# Altium footprint library acf_foot.PcbLib: 36 footprints (part 1 of 3)
Each footprint in its own frame and in the unit in brackets; x right, y up, seen from the top. Pads: shape width x height; smd on the part's side, far side on the other; paste and mask are expansions set on the pad; w line width, h text height; cw(c..) or ccw(c..) is an arc to the next point about the centre after c.
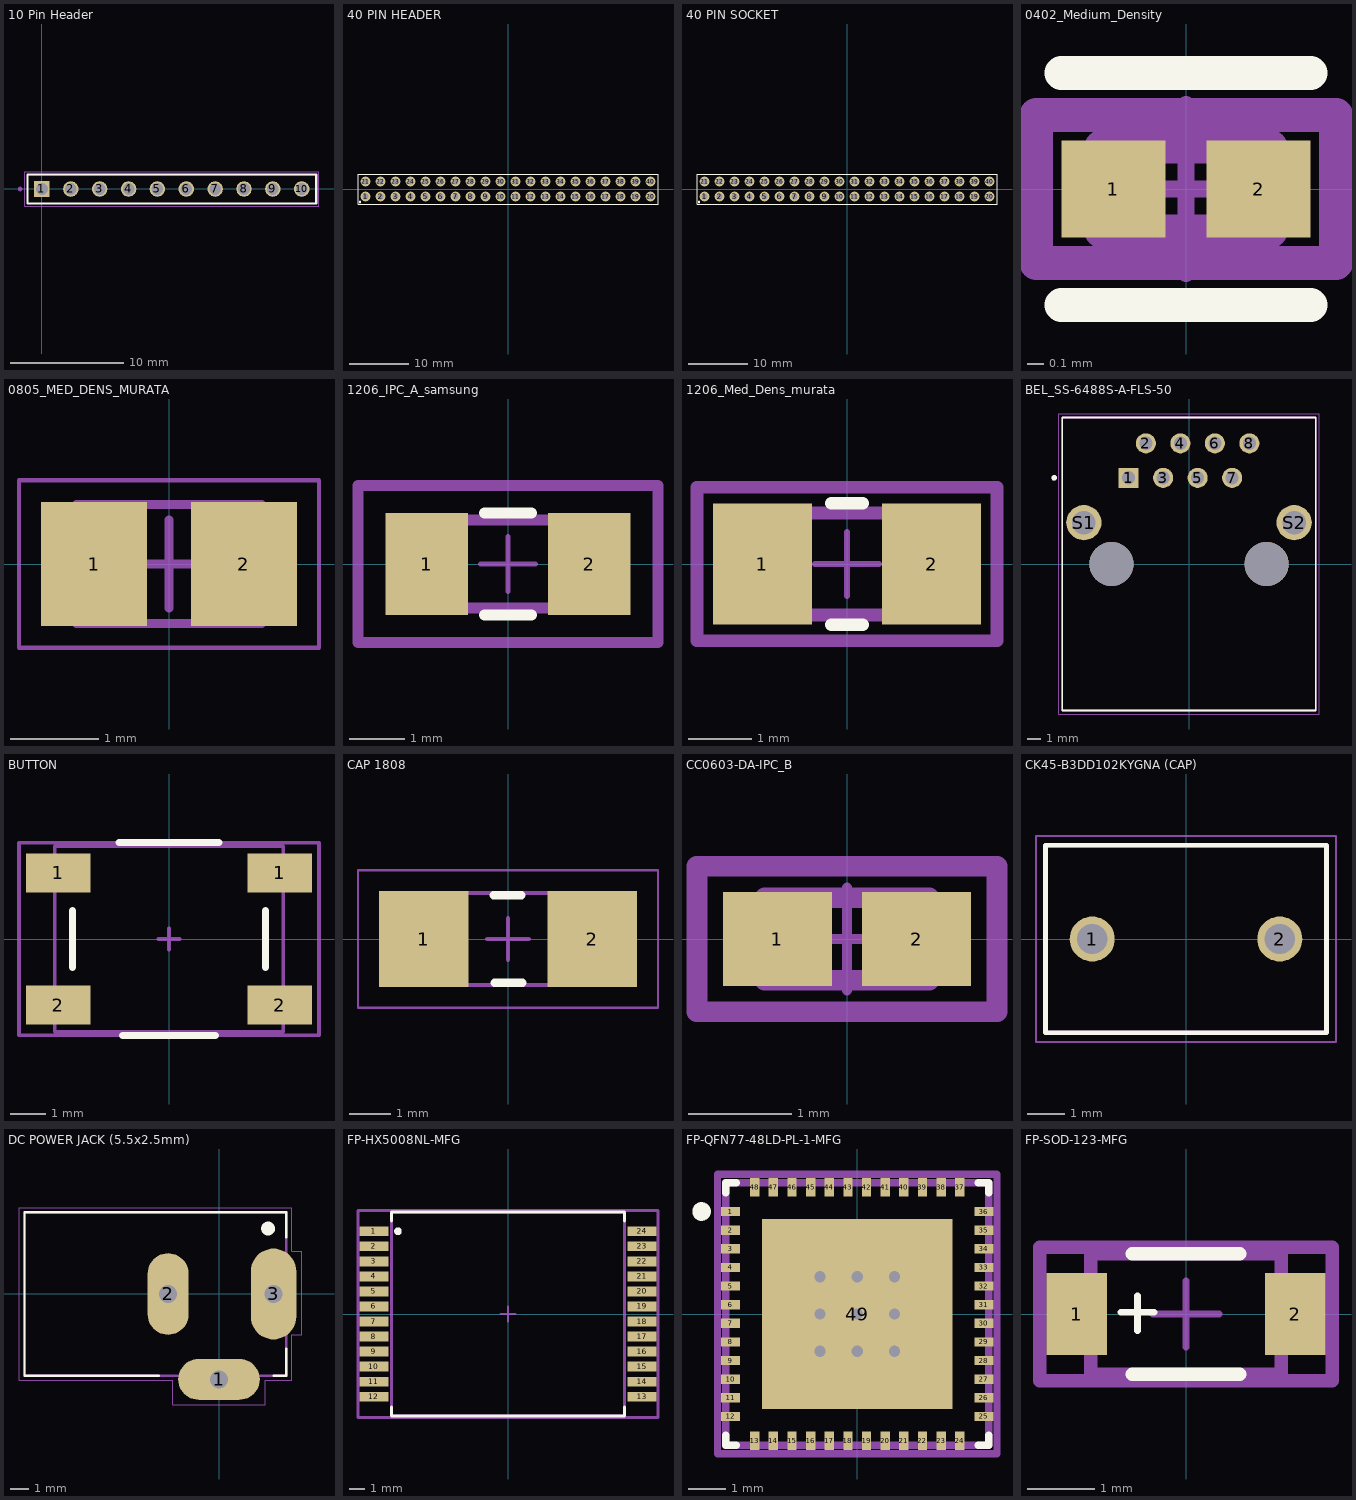
[diagram p0: the footprints below, top view; thin cyan lines are the x and y axes]

## 10 Pin Header [mm]
pads (10):
  rect 1.37x1.37 hole 1.02: 1(0,0)
  round 1.37 hole 1.02: 2(2.54,0) 3(5.08,0) 4(7.62,0) 5(10.16,0) 6(12.7,0) 7(15.24,0) 8(17.78,0) 9(20.32,0) 10(22.86,0)
Top Overlay:
  lines w0.2: -1.27,-1.27 24.13,-1.27 24.13,1.27 -1.27,1.27 -1.27,-1.27
Top 3D Body:
  circle w0.2: c-1.92,0 r0.1
  lines w0.1: -1.27,-1.27 24.13,-1.27 24.13,1.27 -1.27,1.27 -1.27,-1.27
Top Courtyard:
  lines w0.05: -1.52,-1.52 24.38,-1.52 24.38,1.52 -1.52,1.52 -1.52,-1.52
3D body "TSW-110-05-G-S.stp": height 5.21, standoff -3.3, extent -1.352,-1.27 24.175,1.27

## 40 PIN HEADER [mm] "40 PIN HEADER"
pads (40):
  round 1.65 hole 1.1: 1(-24.13,-1.27) 2(-21.59,-1.27) 3(-19.05,-1.27) 4(-16.51,-1.27) 5(-13.97,-1.27) 6(-11.43,-1.27) 7(-8.89,-1.27) 8(-6.35,-1.27) 9(-3.81,-1.27) 10(-1.27,-1.27) 11(1.27,-1.27) 12(3.81,-1.27) 13(6.35,-1.27) 14(8.89,-1.27) 15(11.43,-1.27) 16(13.97,-1.27) 17(16.51,-1.27) 18(19.05,-1.27) 19(21.59,-1.27) 20(24.13,-1.27) 21(-24.13,1.27) 22(-21.59,1.27) 23(-19.05,1.27) 24(-16.51,1.27) 25(-13.97,1.27) 26(-11.43,1.27) 27(-8.89,1.27) 28(-6.35,1.27) 29(-3.81,1.27) 30(-1.27,1.27) 31(1.27,1.27) 32(3.81,1.27) 33(6.35,1.27) 34(8.89,1.27) 35(11.43,1.27) 36(13.97,1.27) 37(16.51,1.27) 38(19.05,1.27) 39(21.59,1.27) 40(24.13,1.27)
Top Overlay:
  circle w0.127: c-25.06,-2.2 r0.1
  lines w0.127: -25.4,-2.54 -25.4,2.54 25.4,2.54 25.4,-2.54 -25.4,-2.54
3D body "61304021121.stp": height 8.47, standoff -3.07, extent -25.375,-2.515 25.425,2.565

## 40 PIN SOCKET [mm] "40 PIN HEADER"
pads (40):
  round 1.65 hole 1.1: 1(-24.13,-1.27) 2(-21.59,-1.27) 3(-19.05,-1.27) 4(-16.51,-1.27) 5(-13.97,-1.27) 6(-11.43,-1.27) 7(-8.89,-1.27) 8(-6.35,-1.27) 9(-3.81,-1.27) 10(-1.27,-1.27) 11(1.27,-1.27) 12(3.81,-1.27) 13(6.35,-1.27) 14(8.89,-1.27) 15(11.43,-1.27) 16(13.97,-1.27) 17(16.51,-1.27) 18(19.05,-1.27) 19(21.59,-1.27) 20(24.13,-1.27) 21(-24.13,1.27) 22(-21.59,1.27) 23(-19.05,1.27) 24(-16.51,1.27) 25(-13.97,1.27) 26(-11.43,1.27) 27(-8.89,1.27) 28(-6.35,1.27) 29(-3.81,1.27) 30(-1.27,1.27) 31(1.27,1.27) 32(3.81,1.27) 33(6.35,1.27) 34(8.89,1.27) 35(11.43,1.27) 36(13.97,1.27) 37(16.51,1.27) 38(19.05,1.27) 39(21.59,1.27) 40(24.13,1.27)
Top Overlay:
  circle w0.127: c-25.06,-2.2 r0.1
  lines w0.127: -25.4,-2.54 -25.4,2.54 25.4,2.54 25.4,-2.54 -25.4,-2.54
3D body "ESQ-120-13-S-D.stp": height 11.51, standoff -6.91, extent -25.629,-2.55 25.679,2.53

## 0402_Medium_Density [mm]
pads (2):
  rect 0.615x0.572 smd paste+0 mask+0: 1(-0.429,0) 2(0.429,0)
Top Overlay:
  lines w0.2: -0.736,-0.686 0.736,-0.686 ; -0.736,0.686 0.736,0.686
Top Assembly:
  lines w0.2: -0.886,-0.436 0.886,-0.436 0.886,0.436 -0.886,0.436 -0.886,-0.436
Top 3D Body:
  lines w0.2: -0.5,-0.25 0.5,-0.25 0.5,0.25 -0.5,0.25 -0.5,-0.25
Top Courtyard:
  lines w0.2: -0.886,-0.436 0.886,-0.436 0.886,0.436 -0.886,0.436 -0.886,-0.436
Top Component Center:
  lines w0.1: -0.5,0 0.5,0 ; 0,-0.5 0,0.5
3D body "Cap_Murata_Electronics_North_America_GRM155R61A474KE15D_eec.STEP": height 0.25, standoff 0, extent -0.886,-0.436 0.886,0.436

## 0805_MED_DENS_MURATA [mm] "Chip Capacitor, 2-Leads, Body 2.00x1.25mm, IPC Medium Density"
height 1.35
pads (2):
  rect 1.2x1.4 smd: 1(-0.85,0) 2(0.85,0)
Top 3D Body:
  lines w0.1: -1.05,-0.675 -1.05,0.675 1.05,0.675 1.05,-0.675 -1.05,-0.675
Top Courtyard:
  lines w0.05: -1.7,-0.95 -1.7,0.95 1.7,0.95 1.7,-0.95 -1.7,-0.95
  lines w0.1: -0.5,0 0.5,0 ; 0,-0.5 0,0.5
3D body: height 1.35, standoff 0, extent -0.6,-0.675 0.6,0.675
3D body: height 1.35, standoff 0, extent -1.05,-0.675 -0.6,0.675
3D body: height 1.35, standoff 0, extent 0.6,-0.675 1.05,0.675

## 1206_IPC_A_samsung [mm]
pads (2):
  rect 1.505x1.858 smd paste+0 mask+0: 1(-1.476,0) 2(1.476,0)
Top Overlay:
  lines w0.2: -0.424,-0.929 0.424,-0.929 ; -0.424,0.929 0.424,0.929
Top Assembly:
  lines w0.2: -2.729,-1.429 -2.729,1.429 2.729,1.429 2.729,-1.429 -2.729,-1.429
Top 3D Body:
  lines w0.2: -1.6,-0.8 -1.6,0.8 1.6,0.8 1.6,-0.8 -1.6,-0.8
Top Courtyard:
  lines w0.2: -2.729,-1.429 -2.729,1.429 2.729,1.429 2.729,-1.429 -2.729,-1.429
Top Component Center:
  lines w0.1: -0.5,0 0.5,0 ; 0,-0.5 0,0.5
3D body "Cap_Samsung_CL31B105KOFNNNE_eec.STEP": height 0.25, standoff 0, extent -2.729,-1.429 2.729,1.429

## 1206_Med_Dens_murata [mm]
pads (2):
  rect 1.553x1.904 smd paste+0 mask+0: 1(-1.325,0) 2(1.325,0)
Top Overlay:
  lines w0.2: -0.249,-0.952 0.249,-0.952 ; -0.249,0.952 0.249,0.952
Top Assembly:
  lines w0.2: -2.352,-1.202 -2.352,1.202 2.352,1.202 2.352,-1.202 -2.352,-1.202
  text ".Designator" at 0,0.188 h1
Top 3D Body:
  lines w0.2: -1.6,-0.8 -1.6,0.8 1.6,0.8 1.6,-0.8 -1.6,-0.8
Top Courtyard:
  lines w0.2: -2.352,-1.202 -2.352,1.202 2.352,1.202 2.352,-1.202 -2.352,-1.202
Top Component Center:
  lines w0.1: -0.5,0 0.5,0 ; 0,-0.5 0,0.5
3D body "Cap_Murata_GRM31CC72A475KE11L_eec.STEP": height 0.25, standoff 0, extent -2.352,-1.202 2.352,1.202

## BEL_SS-6488S-A-FLS-50 [mm]
pads (12):
  rect 1.478x1.478 hole 0.97: 1(-4.445,6.35)
  round 1.478 hole 0.97: 2(-3.175,8.89) 3(-1.905,6.35) 4(-0.635,8.89) 5(0.635,6.35) 6(1.905,8.89) 7(3.175,6.35) 8(4.445,8.89)
  round 2.595 hole 1.73: S1(-7.745,3.05) S2(7.745,3.05)
  round 3.25 hole 3.25 unplated: ""(-5.715,0) ""(5.715,0)
Top Overlay:
  circle w0.2: c-9.931,6.35 r0.1
  lines w0.127: -9.335,-10.79 9.335,-10.79 9.335,10.8 -9.335,10.8 -9.335,-10.79
Top 3D Body:
  circle w0.2: c-9.931,6.35 r0.1
  lines w0.127: -9.335,-10.79 9.335,-10.79 9.335,10.8 -9.335,10.8 -9.335,-10.79
Top Courtyard:
  lines w0.05: -9.585,-11.04 9.585,-11.04 9.585,11.05 -9.585,11.05 -9.585,-11.04

## BUTTON [mm]
pads (4):
  rect 1.8x1.1 smd: 1(-3.1,1.85) 1(3.1,1.85) 2(-3.1,-1.85) 2(3.1,-1.85)
Top Overlay:
  lines w0.2: -2.7,-0.8 -2.7,0.8 ; -1.4,2.7 1.4,2.7 ; -1.3,-2.7 1.3,-2.7 ; 2.7,-0.8 2.7,0.8
Mechanical 1:
  lines w0.1: -3.2,-2.6 3.2,-2.6 3.2,2.6 -3.2,2.6 -3.2,-2.6
Top Courtyard:
  lines w0.1: -0.3,0 0.3,0 ; 0,-0.3 0,0.3 ; -4.2,-2.7 4.2,-2.7 4.2,2.7 -4.2,2.7 -4.2,-2.7
3D body "User Library-4x4_SMD_Switch.STEP": height 1.45, standoff -0.05, extent -3.2,-2.6 3.2,2.6

## CAP 1808 [mm] "Chip Capacitor, 2-Leads, Body 5.1x2.2mm, IPC Low Density"
height 1.803
pads (2):
  rect 2.15x2.3 smd: 1(-2.025,0) 2(2.025,0)
Top Overlay:
  lines w0.2: -0.35,1.05 0.325,1.05 ; -0.325,-1.05 0.35,-1.05
Top 3D Body:
  lines w0.1: -2.55,-1.1 2.55,-1.1 2.55,1.1 -2.55,1.1 -2.55,-1.1
Top Courtyard:
  lines w0.05: -3.6,-1.65 3.6,-1.65 3.6,1.65 -3.6,1.65 -3.6,-1.65
  lines w0.1: -0.5,0 0.5,0 ; 0,-0.5 0,0.5
3D body "CAPC4620X18M.step": height 1.8, standoff 0, extent -2.55,-1.1 2.55,1.1

## CC0603-DA-IPC_B [mm] "0603 CAP"
pads (2):
  rect 1.058x0.912 smd paste+0 mask+0: 1(-0.677,0) 2(0.677,0)
Top Assembly:
  lines w0.2: -1.456,-0.706 1.456,-0.706 1.456,0.706 -1.456,0.706 -1.456,-0.706
Top 3D Body:
  lines w0.2: -0.8,-0.4 0.8,-0.4 0.8,0.4 -0.8,0.4 -0.8,-0.4
Top Courtyard:
  lines w0.2: -1.456,-0.706 1.456,-0.706 1.456,0.706 -1.456,0.706 -1.456,-0.706
Top Component Center:
  lines w0.1: -0.5,0 0.5,0 ; 0,-0.5 0,0.5
3D body "Cap_YAGEO_CC0603KRX7R9BB271_eec.STEP": height 0.25, standoff 0, extent -1.456,-0.706 1.456,0.706

## CK45-B3DD102KYGNA (CAP) [mm]
pads (2):
  round 1.2 hole 0.8: 1(-2.5,0) 2(2.5,0)
Top Overlay:
  lines w0.127: -3.75,-2.5 3.75,-2.5 3.75,2.5 -3.75,2.5 -3.75,-2.5
Top 3D Body:
  lines w0.127: -3.75,-2.5 -3.75,2.5 3.75,2.5 3.75,-2.5 -3.75,-2.5
Top Courtyard:
  lines w0.05: -4,-2.75 -4,2.75 4,2.75 4,-2.75 -4,-2.75
3D body "step_temp.STEP": height 11.5, standoff -21, extent -3.75,-2.497 3.75,2.497

## DC POWER JACK (5.5x2.5mm) [mm] "DC POWER JACK (5.5x2.5mm)"
pads (3):
  oval 4.5x2.25 hole 1 square: 1(0,-4.7)
  oval 2.25x4.5 hole 1 square: 2(-2.8,0)
  oval 2.5x5 hole 1 square: 3(3,0)
Top Overlay:
  circle w0.4: c2.7,3.6 r0.18
  lines w0.127: -3.3,-4.5 -10.7,-4.5 -10.7,4.5 3.7,4.5 3.7,3.125 ; 3,-4.5 3.7,-4.5 3.7,-3
Top 3D Body:
  lines w0.127: -10.7,-4.5 3.7,-4.5 3.7,4.5 -10.7,4.5 -10.7,-4.5
Top Courtyard:
  lines w0.05: -11,-4.75 -2.55,-4.75 -2.55,-6.1 2.55,-6.1 2.55,-4.75 4,-4.75 4,-2.25 4.55,-2.25 4.55,2.35 4,2.35 4,4.75 -11,4.75 -11,-4.75
3D body "694106301002.stp": height 11.35, standoff -3.15, extent -10.625,-4.975 3.875,4.525

## FP-HX5008NL-MFG [mm]
pads (24):
  rect 1.905x0.64 smd paste+0 mask+0: 1(-8.828,5.445) 2(-8.828,4.455) 3(-8.828,3.465) 4(-8.828,2.475) 5(-8.828,1.485) 6(-8.828,0.495) 7(-8.828,-0.495) 8(-8.828,-1.485) 9(-8.828,-2.475) 10(-8.828,-3.465) 11(-8.828,-4.455) 12(-8.828,-5.445) 13(8.828,-5.445) 14(8.828,-4.455) 15(8.828,-3.465) 16(8.828,-2.475) 17(8.828,-1.485) 18(8.828,-0.495) 19(8.828,0.495) 20(8.828,1.485) 21(8.828,2.475) 22(8.828,3.465) 23(8.828,4.455) 24(8.828,5.445)
Top Overlay:
  circle w0.25: c-7.25,5.45 r0.125
  lines w0.2: -7.68,-6.14 -7.68,-6.705 7.68,-6.705 7.68,-6.14 ; -7.68,6.14 -7.68,6.705 7.68,6.705 7.68,6.14
Top Assembly:
  lines w0.2: -9.88,-6.805 9.88,-6.805 9.88,6.805 -9.88,6.805 -9.88,-6.805
Top 3D Body:
  lines w0.2: -7.68,-6.705 7.68,-6.705 7.68,6.705 -7.68,6.705 -7.68,-6.705
Top Courtyard:
  lines w0.2: -9.88,-6.805 9.88,-6.805 9.88,6.805 -9.88,6.805 -9.88,-6.805
Top Component Center:
  lines w0.1: -0.5,0 0.5,0 ; 0,-0.5 0,0.5
3D body "Trans_Pulse_Electronics_Corporation_HX5008NL_eec.STEP": height 0.25, standoff 0, extent -9.88,-6.805 9.88,6.805

## FP-QFN77-48LD-PL-1-MFG [mm]
pads (49):
  rect 0.5x0.25 smd paste+0 mask+0: 1(-3.4,2.75) 2(-3.4,2.25) 3(-3.4,1.75) 4(-3.4,1.25) 5(-3.4,0.75) 6(-3.4,0.25) 7(-3.4,-0.25) 8(-3.4,-0.75) 9(-3.4,-1.25) 10(-3.4,-1.75) 11(-3.4,-2.25) 12(-3.4,-2.75) 25(3.4,-2.75) 26(3.4,-2.25) 27(3.4,-1.75) 28(3.4,-1.25) 29(3.4,-0.75) 30(3.4,-0.25) 31(3.4,0.25) 32(3.4,0.75) 33(3.4,1.25) 34(3.4,1.75) 35(3.4,2.25) 36(3.4,2.75)
  rect 0.25x0.5 smd paste+0 mask+0: 13(-2.75,-3.4) 14(-2.25,-3.4) 15(-1.75,-3.4) 16(-1.25,-3.4) 17(-0.75,-3.4) 18(-0.25,-3.4) 19(0.25,-3.4) 20(0.75,-3.4) 21(1.25,-3.4) 22(1.75,-3.4) 23(2.25,-3.4) 24(2.75,-3.4) 37(2.75,3.4) 38(2.25,3.4) 39(1.75,3.4) 40(1.25,3.4) 41(0.75,3.4) 42(0.25,3.4) 43(-0.25,3.4) 44(-0.75,3.4) 45(-1.25,3.4) 46(-1.75,3.4) 47(-2.25,3.4) 48(-2.75,3.4)
  rect 5.1x5.1 smd paste-1000 mask+0: 49(0,0)
via 1,-1 diameter 0.6 hole 0.3
via 0,-1 diameter 0.6 hole 0.3
via -1,-1 diameter 0.6 hole 0.3
via 1,0 diameter 0.6 hole 0.3
via 0,0 diameter 0.6 hole 0.3
via -1,0 diameter 0.6 hole 0.3
via 1,1 diameter 0.6 hole 0.3
via 0,1 diameter 0.6 hole 0.3
via -1,1 diameter 0.6 hole 0.3
Top Overlay:
  circle w0.25: c-4.175,2.75 r0.125
  lines w0.2: -3.525,-3.25 -3.525,-3.525 -3.25,-3.525 ; -3.525,3.25 -3.525,3.525 -3.25,3.525 ; 3.25,-3.525 3.525,-3.525 3.525,-3.25 ; 3.25,3.525 3.525,3.525 3.525,3.25
Top Paste:
  rectangle: 0.75,-1.75 1.75,-0.75
  rectangle: -0.5,-1.75 0.5,-0.75
  rectangle: -1.75,-1.75 -0.75,-0.75
  rectangle: 0.75,-0.5 1.75,0.5
  rectangle: -0.5,-0.5 0.5,0.5
  rectangle: -1.75,-0.5 -0.75,0.5
  rectangle: 0.75,0.75 1.75,1.75
  rectangle: -0.5,0.75 0.5,1.75
  rectangle: -1.75,0.75 -0.75,1.75
Top Assembly:
  lines w0.2: -3.75,-3.75 -3.75,3.75 3.75,3.75 3.75,-3.75 -3.75,-3.75
  text ".Designator" at 0,0.188 h1
Top 3D Body:
  lines w0.2: -3.525,-3.525 -3.525,3.525 3.525,3.525 3.525,-3.525 -3.525,-3.525
Top Courtyard:
  lines w0.2: -3.75,-3.75 -3.75,3.75 3.75,3.75 3.75,-3.75 -3.75,-3.75
Top Component Center:
  lines w0.1: -0.5,0 0.5,0 ; 0,-0.5 0,0.5
3D body "IC_Microchip_KSZ9031RNXIC-TR_eec.STEP": height 0.91, standoff 0, extent -3.501,-3.501 3.501,3.501

## FP-SOD-123-MFG [mm]
pads (2):
  rect 0.91x1.22 smd paste+0 mask+0: 1(-1.635,0) 2(1.635,0)
Top Overlay:
  lines w0.1: -0.975,0.025 -0.475,0.025 ; -0.725,-0.25 -0.725,0.275
  lines w0.2: -0.805,-0.9 0.805,-0.9 ; -0.805,0.9 0.805,0.9
Top Assembly:
  lines w0.2: -2.19,-1 -2.19,1 2.19,1 2.19,-1 -2.19,-1
Top 3D Body:
  lines w0.2: -1.425,-0.9 -1.425,0.9 1.425,0.9 1.425,-0.9 -1.425,-0.9
Top Courtyard:
  lines w0.2: -2.19,-1 -2.19,1 2.19,1 2.19,-1 -2.19,-1
Top Component Center:
  lines w0.1: -0.5,0 0.5,0 ; 0,-0.5 0,0.5
3D body "Diode_MCC_MBR0540-TP_eec.STEP": height 0.25, standoff 0, extent -2.19,-1 2.19,1